# EAGLE library part LAN8720_DEV (library Blizzard_Library)
LAN8720A Ethernet PN: LAN8720A-CP-ABC-ND
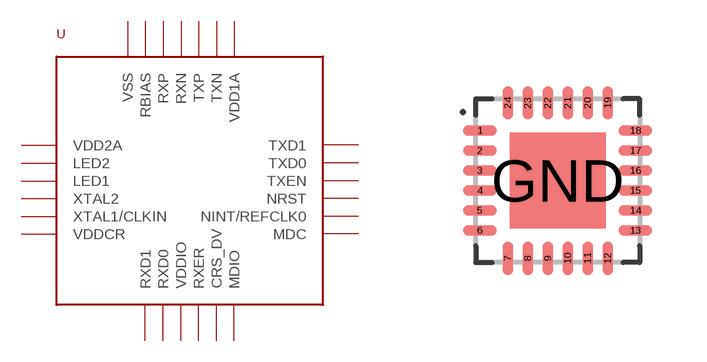
[diagram p8: symbol with the pads of QFN50P400X400X100-24; footprint QFN50P400X400X100-24]

Designator prefix U

## LAN8720_DEV3D_ETH  [QFN50P400X400X100-24]
1  VDD2A
2  LED2
3  LED1
4  XTAL2
5  XTAL1/CLKIN
6  VDDCR
7  RXD1
8  RXD0
9  VDDIO
10  RXER
11  CRS_DV
12  MDIO
13  MDC
14  NINT/REFCLK0
15  NRST
16  TXEN
17  TXD0
18  TXD1
19  VDD1A
20  TXN
21  TXP
22  RXN
23  RXP
24  RBIAS
GND  VSS

## Footprint QFN50P400X400X100-24 (pad centres in mm)
24-QFN, 0.5 mm pitch, 4 X 4 X 1 mm body 24-pin QFN package with 0.5 mm pitch with body size 4 X 4 X 1 mm
smd 0.838 x 0.264: 1 -1.946,1.25; 2 -1.946,0.75; 3 -1.946,0.25; 4 -1.946,-0.25; 5 -1.946,-0.75; 6 -1.946,-1.25; 13 1.946,-1.25; 14 1.946,-0.75; 15 1.946,-0.25; 16 1.946,0.25; 17 1.946,0.75; 18 1.946,1.25
smd 0.264 x 0.838: 7 -1.25,-1.946; 8 -0.75,-1.946; 9 -0.25,-1.946; 10 0.25,-1.946; 11 0.75,-1.946; 12 1.25,-1.946; 19 1.25,1.946; 20 0.75,1.946; 21 0.25,1.946; 22 -0.25,1.946; 23 -0.75,1.946; 24 -1.25,1.946
smd 2.4 x 2.4: GND 0,0